# Altium integrated library Hengeveld.IntLib: 33 symbols
Pins are listed as number, name and electrical type; pins without a type are passive.

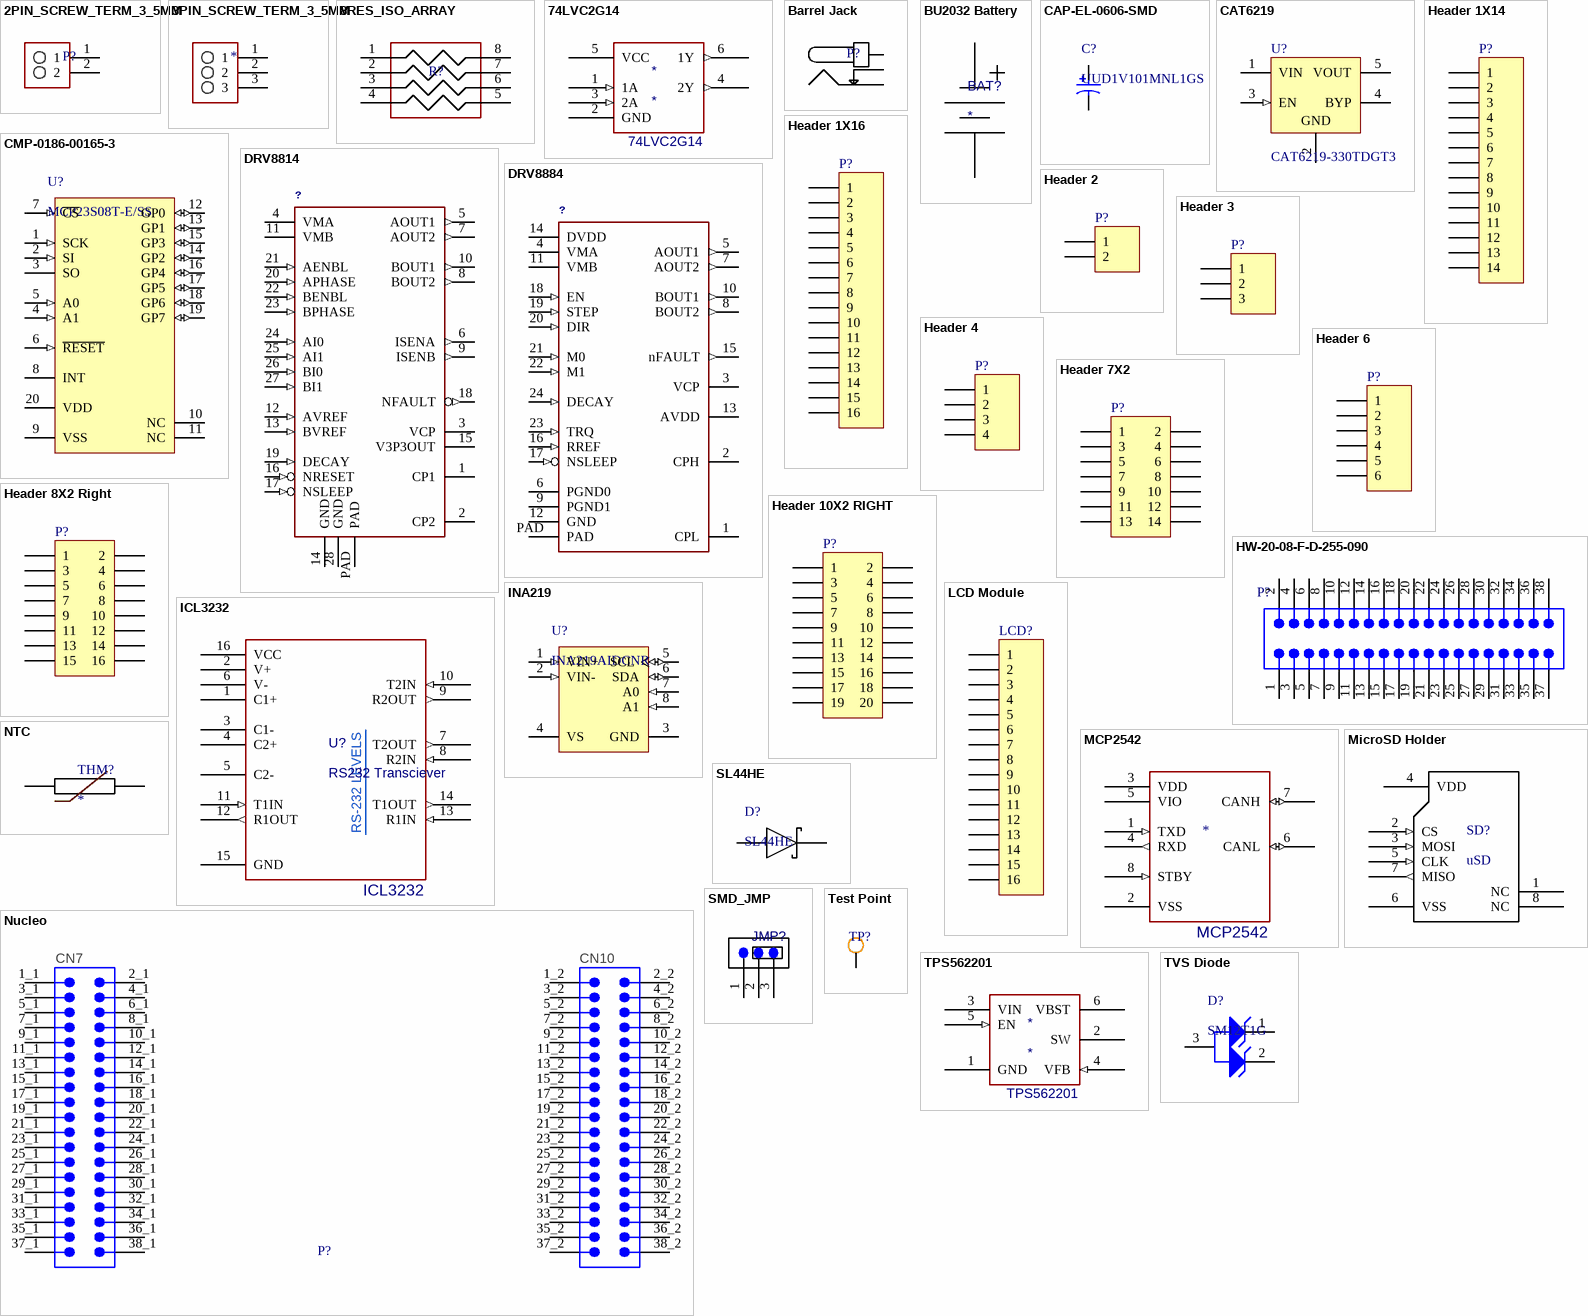
[diagram p0: symbols 2PIN_SCREW_TERM_3_5MM to TVS Diode]

## 2PIN_SCREW_TERM_3_5MM
designator P?  (value not drawn)
footprint 2PIN_SCREWW_TERM_3_5MM
pins: 1, 2

## 3PIN_SCREW_TERM_3_5MM
designator *  (value not drawn)
footprint 3PIN_SCREWW_TERM_3_5MM
pins: 1, 2, 3

## 8RES_ISO_ARRAY
designator R?  (value not drawn)
4 Resistor Array
footprint 4RES_ARRAY_1206
pins: 1 14, 2 14, 3 14, 4 14, 5 15, 6 15, 7 15, 8 15

## 74LVC2G14
designator *
footprint ONSC-SOT-363-6-419B-02_V (SOT23, 6-Leads, Body 2x1.25mm, Pitch 0.65mm)
pins: 1 1A (in), 2 GND (power), 3 2A (in), 4 2Y (out), 5 VCC (power), 6 1Y (out)

## Barrel Jack
designator P?  (value not drawn)
footprint 2.1x5.5mm Barrel Jack
pins: 1, 2, 3

## BU2032 Battery
designator BAT?
footprint BU2032
pins: + (power), - (power)

## CAP-EL-0606-SMD
designator C?, comment UUD1V101MNL1GS
Aluminum Electrolytic Capacitor, UD Series, Low Impedance, 100 uF, 35 V, + / - 20%, -55 to 105 degC, Chip Type, 8 x 10 mm D x L, Pb-Free, Reel; Manufacturer: Nichicon; Rated Ripple Current (at 100kHz): 450 mA; Packing: Dia382mm Reel; Endurance Time: 5000 h; Impedance: 0.17 Ohm; Rated Voltage: 35 V; Rated Capacitance: 100 uF; Tolerance Rated Capacitance: -20 to 20%; ComponentLink2URL: http://products.nichicon.co.jp/en/pdf/XJA043/e-ud.pdf; DatasheetVersion: 08/2012; ComponentLink1Description: Manufacturer URL; Diameter: 8 mm; RoHS: TRUE; ComponentLink3Description: Package Specification; Mounting Technology: Surface Mount; ComponentLink3URL: http://products.nichicon.co.jp/en/pdf/XJA043/e-ud.pdf; PartNumber: UUD1V101MNL1GS; Length: 10 mm; PackageReference: CAPAE-D8H10; ComponentLink1URL: http://www.nichicon.co.jp/; ComponentLink2Description: Datasheet; PackageDescription: 2-Pin Surface Mount Device, Diameter 8 mm, Height 10 mm, Pitch 6.5 mm
footprint SMD-CAP-0606 (Aluminum Electrolytic Capacitor, Diameter 6.3mm, Height 6.1mm, Pitch 5.4mm)
pins: 1, 2

## CAT6219
designator U?, comment CAT6219-330TDGT3
Fixed Low Drop Positive Voltage Regulator, 3.3V, 5-Pin TSOT-23, Tape and Reel; Manufacturer: ON Semiconductor; PSRR (dB): 64; VI Max (V): 5.5; Output: Single; Iq Typ (mA): 0.085; Noise (uVrms): 45; VDO Typ (V): 0.3; Io Typ(A): 0.5; Vo(V): 3.3; Polarity: Positive; DatasheetVersion: Rev. 14; Package Type: TSOT-23-5; RoHS: Pb-free; Mounting Technology: Surface Mount; ComponentLink1URL: http://www.onsemi.com/; PartNumber: CAT6219-330TDGT3; ComponentLink3Description: Package Specification; ComponentLink2URL: http://www.onsemi.com/pub_link/Collateral/CAT6219-D.PDF; ComponentLink3URL: http://www.onsemi.com/pub_link/Collateral/419AE.PDF; PackageVersion: Rev. O; ComponentLink1Description: Manufacturer URL; PackageReference: TSOT-23; ComponentLink2Description: Datasheet; PackageDescription: 5-Pin Plastic Small Outline Package, Body 2.9 x 1.6mm, Pitch 0.95mm
footprint SOT-23-5 (SOT23, 5-Leads, Body 2.90x1.6mm, Pitch 0.95mm, IPC Medium Density)
pins: 1 VIN (power) "Supply voltage input.", 2 GND (power) "Ground reference.", 3 EN (in) "Enable input (active high); a 2.5 M pull-down  resistor is provided.", 4 BYP "Optional bypass capacitor connection for noise  reduction and PSRR enhancing.", 5 VOUT (power) "LDO Output Voltage."

## CMP-0186-00165-3
designator U?, comment MCP23S08T-E/SS
8-Bit I/O Expander with Serial Interface, 20-Pin SSOP, Extended Temperature, Tape and Reel; PackageReference: SSOP-SS20; ComponentLink3URL: http://www.microchip.com/stellent/groups/techpub_sg/documents/packagingspec/en012702.pdf; ComponentLink1URL: http://www.microchip.com/; ComponentLink1Description: Manufacturer URL; DatasheetVersion: revE, Aug-2007; Code_JEDEC: MO-150; ComponentLink3Description: Package Specification; PackageVersion: revBB, Aug-2009; PackageDescription: 20-Lead Plastic Shrink Small Outline (SS) - 5.3mm Body [SSOP]; RevisionNote: Sch corrected.; ComponentLink2Description: Datasheet; ComponentLink2URL: http://ww1.microchip.com/downloads/en/DeviceDoc/21919e.pdf
footprint SSOP-20 (SOP, 20-Leads, Body 7.2x5.2mm, Pitch 0.65mm, IPC Low Density)
pins: 1 SCK (in), 2 SI (in), 3 SO (hiz), 4 A1 (in), 5 A0 (in), 6 ~{RESET} (in), 7 ~{CS} (in), 8 INT (oc), 9 VSS (power), 10 NC, 11 NC, 12 GP0 (io), 13 GP1 (io), 14 GP2 (io), 15 GP3 (io), 16 GP4 (io), 17 GP5 (io), 18 GP6 (io), 19 GP7 (io), 20 VDD (power)

## DRV8814
designator ?
GateName_1: G$1; SymbolName_1: DRV8814; LibraryName: DRV88xx; DeviceSetName: DRV8814; Package: HTSSOP28PWP
footprint TI-PWP28 (SOP, 28-Leads, Body 9.7x4.4mm, Pitch 0.65mm, Thermal Pad 5.72 x 1.95mm, IPC Low Density)
pins: 1 CP1 (power), 2 CP2 (power), 3 VCP (power), 4 VMA (power), 5 AOUT1 (out), 6 ISENA (out), 7 AOUT2 (out), 8 BOUT2 (out), 9 ISENB (out), 10 BOUT1 (out), 11 VMB (power), 12 AVREF (in), 13 BVREF (in), 14 GND (power), 15 V3P3OUT (power), 16 NRESET (in), 17 NSLEEP (in), 18 NFAULT (out), 19 DECAY (in), 20 APHASE (in), 21 AENBL (in), 22 BENBL (in), 23 BPHASE (in), 24 AI0 (in), 25 AI1 (in), 26 BI0 (in), 27 BI1 (in), 28 GND (power), PAD (power)

## DRV8884
designator ?
GateName_1: G$1; SymbolName_1: DRV8843; LibraryName: DRV88xx; DeviceSetName: DRV8843; Package: HTSSOP28PWP
footprint TI-PWP24 (SOP, 28-Leads, Body 9.7x4.4mm, Pitch 0.65mm, Thermal Pad 5.72 x 1.95mm, IPC Low Density)
pins: 1 CPL (power), 2 CPH (power), 3 VCP (power), 4 VMA (power), 5 AOUT1 (out), 6 PGND0 (power), 7 AOUT2 (out), 8 BOUT2 (out), 9 PGND1 (power), 10 BOUT1 (out), 11 VMB (power), 12 GND (power), 13 AVDD (power), 14 DVDD (power), 15 nFAULT (out), 16 RREF (in), 17 NSLEEP (in), 18 EN (in), 19 STEP (in), 20 DIR (in), 21 M0 (in), 22 M1 (in), 23 TRQ (in), 24 DECAY (in), PAD (power)

## Header 1X14
designator P?
Header, 14-Pin; LatestRevisionDate: 17-Jul-2002; LatestRevisionNote: Re-released for DXP Platform.; Publisher: Altium Limited
footprint HDR1X14 (Connector; Header; 14 Position)
pins: 1, 2, 3, 4, 5, 6, 7, 8, 9, 10, 11, 12, 13, 14

## Header 1X16
designator P?
Header, 16-Pin; LatestRevisionDate: 17-Jul-2002; LatestRevisionNote: Re-released for DXP Platform.; Publisher: Altium Limited
footprint HDR1X16 (Connector; Header; 16 Position)
pins: 1, 2, 3, 4, 5, 6, 7, 8, 9, 10, 11, 12, 13, 14, 15, 16

## Header 2
designator P?
Header, 2-Pin; LatestRevisionDate: 17-Jul-2002; LatestRevisionNote: Re-released for DXP Platform.; Publisher: Altium Limited
footprint HDR1X2 (Connector; Header; 2 Position)
pins: 1, 2

## Header 3
designator P?
Header, 3-Pin; LatestRevisionDate: 17-Jul-2002; LatestRevisionNote: Re-released for DXP Platform.; Publisher: Altium Limited
footprint HDR1X3 (Connector; Header; 3 Position)
pins: 1, 2, 3

## Header 4
designator P?
Header, 4-Pin; LatestRevisionDate: 17-Jul-2002; LatestRevisionNote: Re-released for DXP Platform.; Publisher: Altium Limited
footprint HDR1X4 (Connector; Header; 4 Position)
pins: 1, 2, 3, 4

## Header 6
designator P?
Header, 6-Pin; LatestRevisionDate: 17-Jul-2002; LatestRevisionNote: Re-released for DXP Platform.; Publisher: Altium Limited
footprint HDR1X6 (Connector; Header; 6 Position)
pins: 1, 2, 3, 4, 5, 6

## Header 7X2
designator P?
Header, 7-Pin, Dual row; LatestRevisionDate: 17-Jul-2002; LatestRevisionNote: Re-released for DXP Platform.; Publisher: Altium Limited
footprint HDR2X7 (Connector; Header; 7x2 Position)
signal-integrity model Connector
footprint HDR2X7 (Connector; Header; 7x2 Position)
pins: 1, 2, 3, 4, 5, 6, 7, 8, 9, 10, 11, 12, 13, 14

## Header 8X2 Right
designator P?
Header, 8-Pin, Dual row, Right Angle; LatestRevisionDate: 17-Jul-2002; LatestRevisionNote: Re-released for DXP Platform.; Publisher: Altium Limited
footprint HDR2X8 RIGHT (Connector; Header; 10x2 Position; Right Angle)
pins: 1, 2, 3, 4, 5, 6, 7, 8, 9, 10, 11, 12, 13, 14, 15, 16

## Header 10X2 RIGHT
designator P?
Header, 10-Pin, Dual row, Right Angle; LatestRevisionDate: 17-Jul-2002; LatestRevisionNote: Re-released for DXP Platform.; Publisher: Altium Limited
footprint HDR2X10 RIGHT (Connector; Header; 10x2 Position; Right Angle)
pins: 1, 2, 3, 4, 5, 6, 7, 8, 9, 10, 11, 12, 13, 14, 15, 16, 17, 18, 19, 20

## HW-20-08-F-D-255-090
designator P?
Flexible .025" SQ Board Stacker, Through-hole, Vertical, -55 to 125 degC, 2.54 mm Pitch, 40-Pin, Male, RoHS; Manufacturer: Samtec; PartNumber: HW-20-08-F-D-255-090; Pitch: 2.54 mm; DatasheetVersion: F-214; PackageVersion: Y, 8/1991; PackageReference: HW-20-08-X-D-255-090; PackageDescription: .100[2.54] High Temp Terminal Body (Board Stacking); Orientation: Vertical; RoHS: True; Temperature Range: -55 to 125 degC; Mounting Technology: Through-hole; ComponentLink1Description: Datasheet; ComponentLink1URL: http://www.samtec.com/documents/webfiles/pdf/HW_TH.PDF; ComponentLink2Description: Package Specification; ComponentLink2URL: http://www.samtec.com/documents/webfiles/cpdf/HW-XX-XX-XX-X-XXX-XXX-XX-XXX-MKT.pdf
pins: 1, 2, 3, 4, 5, 6, 7, 8, 9, 10, 11, 12, 13, 14, 15, 16, 17, 18, 19, 20, 21, 22, 23, 24, 25, 26, 27, 28, 29, 30, 31, 32, 33, 34, 35, 36, 37, 38

## ICL3232
designator U?, comment RS232 Transciever
footprint TSSOP-16 (TSOP, 14-Leads, Body 5x4.4mm, Pitch 0.65mm, IPC Medium Density)
pins: 1 C1+ (power), 2 V+ (power), 3 C1- (power), 4 C2+ (power), 5 C2- (power), 6 V- (power), 7 T2OUT (out), 8 R2IN (in), 9 R2OUT (out), 10 T2IN (in), 11 T1IN (in), 12 R1OUT (out), 13 R1IN (in), 14 T1OUT (out), 15 GND (power), 16 VCC (power)
text: RS-232 LEVELS

## INA219
designator U?, comment INA219AIDCNR
Zero-Drift, Bi-directional Current / Power Monitor, 3 to 5.5 V, -40 to 125 degC, 8-pin SOP (DCN8), Green (RoHS & no Sb/Br); Manufacturer: Texas Instruments; Input Offset (+/-)(Max)(uV): 100; Small-Signal Bandwidth(Typ)(MHz): 0.011; SubFamily: Current Shunt Monitor; Rating: Catalog; Quiescent Current (+/-)(Typ)(mA): 0.7; Vs(Max)(V): 5.5; Common Mode Range(Min)(V): 0; Vs(Min)(V): 3; Common Mode Range(Max)(V): 26; Gain(V/V): 1, 0.5, 0.25, 0.125; ComponentLink3URL: http://www.ti.com/lit/ml/mpds099c/mpds099c.pdf; ComponentLink2URL: http://www.ti.com/general/docs/lit/getliterature.tsp?genericPartNumber=INA219&fileType=pdf; PackageReference: DCN0008A; ComponentLink1URL: http://www.ti.com/; ComponentLink1Description: Manufacturer URL; Code_JEDEC: MO-178; CMRR(Min)(dB): 100; DatasheetVersion: SBOS448F; Mounting Technology: Surface Mount; ComponentLink3Description: Package Specification; PartNumber: INA219AIDCNR; PackageVersion: 4202106/D, 11/2009; Eco-Plan: Green (RoHS & no Sb/Br); ComponentLink2Description: Datasheet; PackageDescription: 8-Pin Plastic Small Outline, Body 1.6 x 2.9 mm, Pitch 0.65 mm
footprint SOT-23-8 (SOT23, 8-Leads, Body 3x1.75mm, Pitch 0.65mm, IPC Low Density)
pins: 1 VIN+ (in) "Positive differential shunt voltage. Connect to positive side of shunt resistor.", 2 VIN- (in) "Negative differential shunt voltage. Connect to negative side of shunt resistor. Bus voltage is measured from this pin to ground.", 3 GND (power) "Ground.", 4 VS (power) "Power supply, 3V to 5.5V.", 5 SCL (io) "Serial bus clock line.", 6 SDA (io) "Serial bus data line.", 7 A0 (in) "Address pin.", 8 A1 (in) "Address pin."

## LCD Module
designator LCD?
Header, 16-Pin; LatestRevisionDate: 17-Jul-2002; LatestRevisionNote: Re-released for DXP Platform.; Publisher: Altium Limited
footprint LCD Module (16 Pin LCD Module w/ header pins, Female Header)
pins: 1, 2, 3, 4, 5, 6, 7, 8, 9, 10, 11, 12, 13, 14, 15, 16

## MCP2542
designator *  (value not drawn)
footprint MCHP-SOIC-SN8_N (SOIC, 8-Leads, Body 4.9x3.9mm, Pitch 1.27mm, IPC Medium Density)
pins: 1 TXD (in), 2 VSS (power), 3 VDD (power), 4 RXD (out), 5 VIO (power), 6 CANL (io), 7 CANH (io), 8 STBY (in)

## MicroSD Holder
designator SD?, comment uSD
uSD Card Holder, SPI Interface
footprint uSD (uSD Card Holder)
pins: 1 NC, 2 CS (in), 3 MOSI (in), 4 VDD (power), 5 CLK (in), 6 VSS (power), 7 MISO (out), 8 NC

## NTC
designator THM?
footprint NTC (Through-hole NTC)
pins: 1, 2

## Nucleo
designator P?
STM32F303 Nucleo Development Board; Manufacturer: Samtec; PartNumber: HW-20-08-F-D-255-090; Pitch: 2.54 mm; DatasheetVersion: F-214; PackageVersion: Y, 8/1991; PackageReference: HW-20-08-X-D-255-090; PackageDescription: .100[2.54] High Temp Terminal Body (Board Stacking); Orientation: Vertical; RoHS: True; Temperature Range: -55 to 125 degC; Mounting Technology: Through-hole; ComponentLink1Description: Datasheet; ComponentLink1URL: http://www.samtec.com/documents/webfiles/pdf/HW_TH.PDF; ComponentLink2Description: Package Specification; ComponentLink2URL: http://www.samtec.com/documents/webfiles/cpdf/HW-XX-XX-XX-X-XXX-XXX-XX-XXX-MKT.pdf
footprint NUCLEO (Low Cost Board Spacer, 2x19 Pins, Vertical, 2.54mm Pitch, Male)
pins: 1_1 1, 1_2 1, 2_1 2, 2_2 2, 3_1 3, 3_2 3, 4_1 4, 4_2 4, 5_1 5, 5_2 5, 6_1 6, 6_2 6, 7_1 7, 7_2 7, 8_1 8, 8_2 8, 9_1 9, 9_2 9, 10_1 10, 10_2 10, 11_1 11, 11_2 11, 12_1 12, 12_2 12, 13_1 13, 13_2 13, 14_1 14, 14_2 14, 15_1 15, 15_2 15, 16_1 16, 16_2 16, 17_1 17, 17_2 17, 18_1 18, 18_2 18, 19_1 19, 19_2 19, 20_1 20, 20_2 20, 21_1 21, 21_2 21, 22_1 22, 22_2 22, 23_1 23, 23_2 23, 24_1 24, 24_2 24, 25_1 25, 25_2 25, 26_1 26, 26_2 26, 27_1 27, 27_2 27, 28_1 28, 28_2 28, 29_1 29, 29_2 29, 30_1 30, 30_2 30, 31_1 31, 31_2 31, 32_1 32, 32_2 32, 33_1 33, 33_2 33, 34_1 34, 34_2 34, 35_1 35, 35_2 35, 36_1 36, 36_2 36, 37_1 37, 37_2 37, 38_1 38, 38_2 38
text: CN7; CN10

## SL44HE
designator D?
Schottky Power Rectifier, 2-Pin SMC, 40V, 8A; PartNumber: MBRS540T3; Manufacturer: On Semiconductor; IFSM Max (A): 190; Configuration: Single; Packing: Tape and Reel; ComponentLink1Description: Manufacturer URL; ComponentLink3URL: http://www.onsemi.com/pub_link/Collateral/403-03.PDF; DatasheetVersion: Rev. 8; ComponentLink2Description: Datasheet; PackageReference: SMC-2-403-03; PackageDescription: 2-Pin Small Molded Package, J-Bend Lead, Body 5.845 x 6.855 mm; PackageVersion: Rev. E, 08/2005; ComponentLink1URL: http://www.onsemi.com/; ComponentLink2URL: http://www.onsemi.cn/pub_link/Collateral/MBRS540T3-D.PDF; RoHS: FALSE; ComponentLink3Description: Package Specification; Mounting Technology: Surface Mount
footprint SMC Diode (Molded, 2-Leads, Body 6.86x5.84mm)
pins: 1 K, 2 A

## SMD_JMP
designator JMP?  (value not drawn)
footprint 0603_JUMPER (3 Pad SMD Jumper, 0603)
pins: 1, 2, 3

## Test Point
designator TP?, comment Test point  (value not drawn)
footprint SMD Test Hook
pins: 1 point

## TPS562201
designator *
footprint MCHP-SOT-23-OT6_N (SOT23, 6-Leads, Body 2.9x1.55mm, Pitch 0.95mm, IPC Medium Density)
pins: 1 GND (power), 2 SW (power), 3 VIN (power), 4 VFB (in), 5 EN (in), 6 VBST (power)

## TVS Diode
designator D?, comment SM12T1G
Transient Voltage Suppressor Diode Array, Dual Common Anode Diodes for ESD Protection, 3-Pin SOT-23, Pb-Free, Tape and Reel; Manufacturer: On Semiconductor; PPK Max (W): 300; IR Max (uA): 1; Direction: Unidirectional; Mounting Technology: Surface Mount; RoHS: Pb-Free; ComponentLink3URL: http://www.onsemi.cn/pub_link/Collateral/318-08.PDF; PartNumber: SM12T1G; ComponentLink2Description: Datasheet; ComponentLink1URL: http://www.onsemi.com/; ComponentLink3Description: Package Specification; PackageReference: SOT-23-3-318-08; ComponentLink2URL: http://www.onsemi.com/pub_link/Collateral/SM12T1-D.PDF; Packing: Tape and Reel; DatasheetVersion: Rev. 6; PackageVersion: Rev. AP, 11/2009; ComponentLink1Description: Manufacturer URL; PackageDescription: 3-Pin Small Outline Transistor, Body 2.92 x 1.3 mm, Pitch 0.95 mm
footprint SOT-23-3 (SOT23, 3-Leads, Body 2.92x1.3mm, Pitch 0.95mm)
pins: 1 K1, 2 K2, 3 A